# Altium schematic symbol library 1571983-4.SchLib: 1 symbol
Pins are listed as number, name and electrical type; pins without a type are passive.

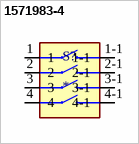
[diagram p0: symbol 1571983-4]

## 1571983-4
designator S?
SWITCH SLIDE DIP SPST 25MA 24V; MP: 1571983-4; Price: None; Availability: Unavailable; Value: *; Package: None
footprint SW_1571983-4
pins: 1, 1-1, 2, 2-1, 3, 3-1, 4, 4-1